# Altium schematic symbol library WCE_thesis.SchLib: 10 symbols
Pins are listed as number, name and electrical type; pins without a type are passive.

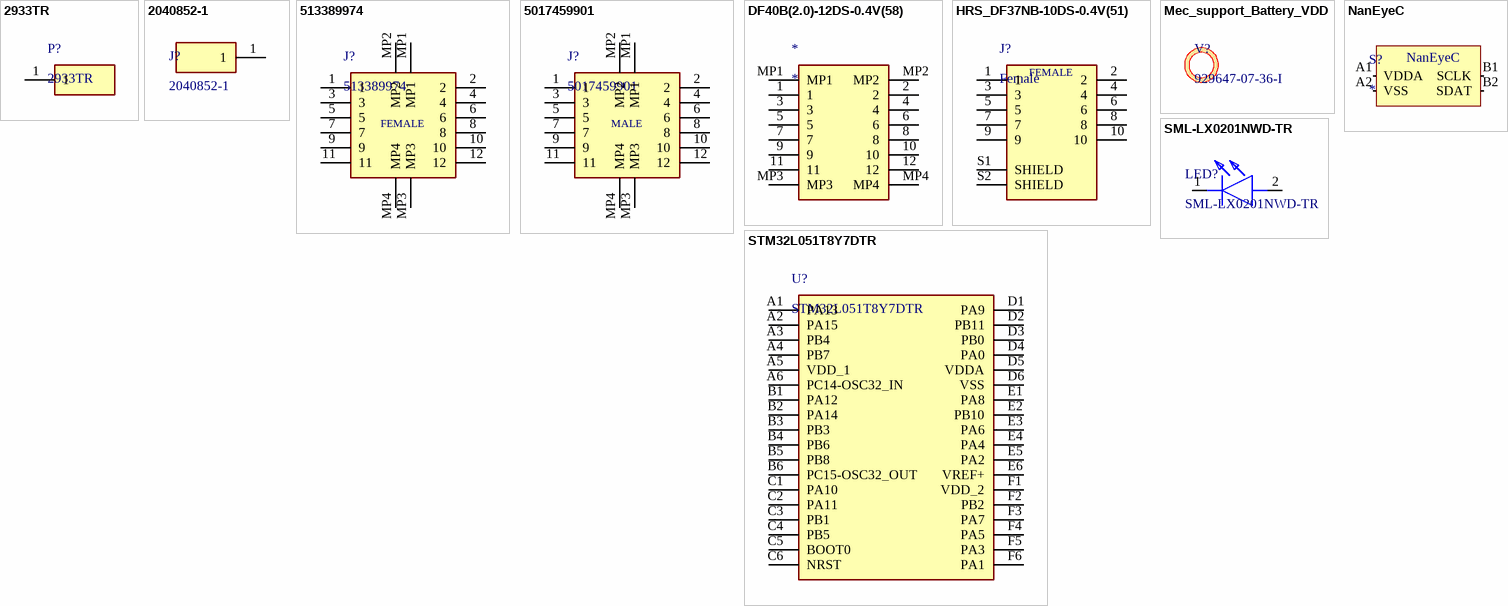
[diagram p0: symbols 2933TR to STM32L051T8Y7DTR]

## 2933TR
designator P?
Keystone 2933TR Battery leaf spring
footprint 2993TR
pins: 1

## 2040852-1
designator J?
TE connectivity 2040852-1 PCB Spring Contact
footprint 2040852-1 (PCB Spring)
pins: 1

## 513389974
designator J?
Molex 513389974 Female connector
footprint 513389974
pins: 1, 2, 3, 4, 5, 6, 7, 8, 9, 10, 11, 12, MP1, MP2, MP3, MP4
text: FEMALE

## 5017459901
designator J?
Molex 5017459901 Male connector
footprint 5017459901
pins: 1, 2, 3, 4, 5, 6, 7, 8, 9, 10, 11, 12, MP1, MP2, MP3, MP4
text: MALE

## DF40B(2.0)-12DS-0.4V(58)
designator *
footprint DF40B2012DS04V58
pins: 1, 2, 3, 4, 5, 6, 7, 8, 9, 10, 11, 12, MP1, MP2, MP3, MP4

## HRS_DF37NB-10DS-0.4V(51)
designator J?, comment Female
HRS_DF37NB-10DS-0.4V(51) / Female connector 10-pin
footprint DF37NB-10DS-0.4V(51)
pins: 1, 2, 3, 4, 5, 6, 7, 8, 9, 10, S1 SHIELD, S2 SHIELD
text: FEMALE

## Mec_support_Battery_VDD
designator V?, comment 929647-07-36-I
Mechanical support between Battery bottom and top PCB. Using PCB header 929647-07-36-I from 3M cut to the correct length. The whole annular ring i slight smaller than recommended to fit in the limited space.
footprint Mec_support_Battery_VDD

## NanEyeC
designator S?
Camera module NanEyeC from AMS
footprint NanEyeC
pins: A1 VDDA (power), A2 VSS, B1 SCLK (power), B2 SDAT

## SML-LX0201NWD-TR
designator LED?
Lumex LED 0201 SML-LX0201NWD-TR
footprint SML-LX0201NWD-TR
pins: 1 K, 2 A

## STM32L051T8Y7DTR
designator U?
STM microcontroller STM32L051T8Y7DTR WLCSP36
footprint STM32L051T8Y7DTR
pins: A1 PA13, A2 PA15, A3 PB4, A4 PB7, A5 VDD_1, A6 PC14-OSC32_IN, B1 PA12, B2 PA14, B3 PB3, B4 PB6, B5 PB8, B6 PC15-OSC32_OUT, C1 PA10, C2 PA11, C3 PB1, C4 PB5, C5 BOOT0, C6 NRST, D1 PA9, D2 PB11, D3 PB0, D4 PA0, D5 VDDA, D6 VSS, E1 PA8, E2 PB10, E3 PA6, E4 PA4, E5 PA2, E6 VREF+, F1 VDD_2, F2 PB2, F3 PA7, F4 PA5, F5 PA3, F6 PA1